# EAGLE library part SI4464 (library silicon_labs)
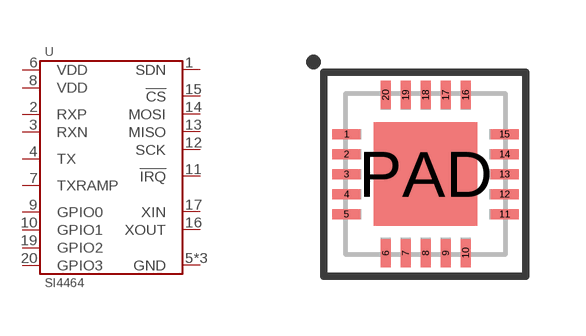
[diagram p3: symbol with the pads of QFN-20-4X4; footprint QFN-20-4X4]

Designator prefix U

## SI4464-B1B-FM  [QFN-20-4X4]
1  SDN
2  RXP
3  RXN
4  TX
5  GND
6  VDD
7  TXRAMP
8  VDD
9  GPIO0
10  GPIO1
11  !IRQ
12  SCK
13  MISO
14  MOSI
15  !CS
16  XOUT
17  XIN
18  GND
19  GPIO2
20  GPIO3
PAD  GND

## Footprint QFN-20-4X4 (pad centres in mm)
smd 0.7 x 0.25: 1 -1.975,1; 2 -1.975,0.5; 3 -1.975,0; 4 -1.975,-0.5; 5 -1.975,-1; 11 1.975,-1; 12 1.975,-0.5; 13 1.975,0; 14 1.975,0.5; 15 1.975,1
smd 0.25 x 0.7: 6 -1,-1.975; 7 -0.5,-1.975; 8 0,-1.975; 9 0.5,-1.975; 10 1,-1.975; 16 1,1.975; 17 0.5,1.975; 18 0,1.975; 19 -0.5,1.975; 20 -1,1.975
smd 2.6 x 2.6: PAD 0,0